# Altium schematic symbol library RESISTORS.SchLib: 4 symbols
Pins are listed as number, name and electrical type; pins without a type are passive.

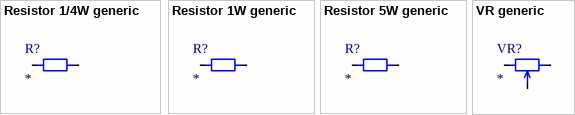
[diagram p0: symbols Resistor 1/4W generic to VR generic]

## Resistor 1/4W generic
designator R?
Resistance: *
footprint Resistor THT 0,25W
pins: 1, 2

## Resistor 1W generic
designator R?
Power Rating: 1W; Resistance: ohm
footprint Resistor THT 1W
pins: 1, 2

## Resistor 5W generic
designator R?
Power Rating: 5W; Resistanceter 1: *
footprint Resistor THT 5W
pins: 1, 2

## VR generic
designator VR?
Resistance: *
footprint Variable Resistor (VR)
pins: 1, 2, 3